# Altium footprint library TPS54361DPRT.PcbLib: 1 footprints
Each footprint in its own frame and in the unit in brackets; x right, y up, seen from the top. Pads: shape width x height; smd on the part's side, far side on the other; paste and mask are expansions set on the pad; w line width, h text height; cw(c..) or ccw(c..) is an arc to the next point about the centre after c.
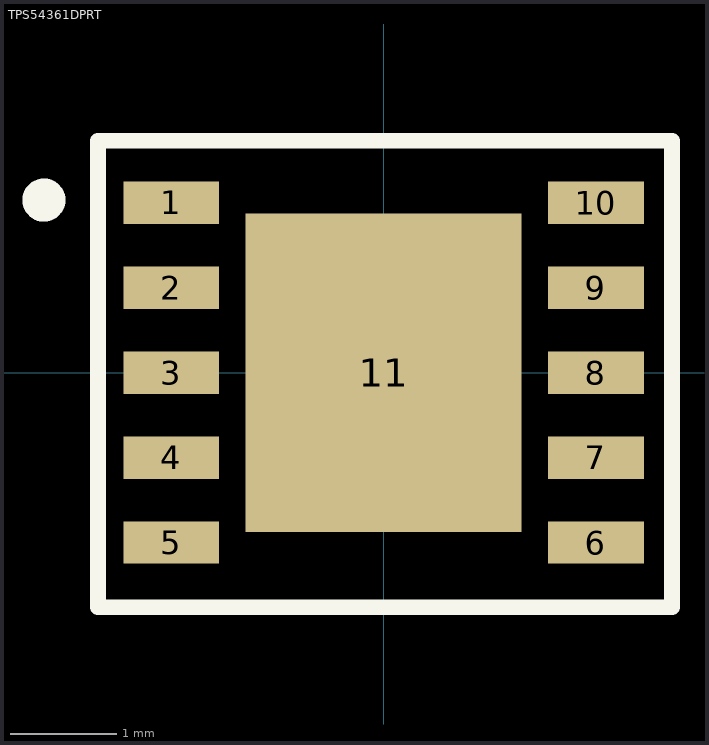
[diagram p0: the footprint, top view; thin cyan lines are the x and y axes]

## TPS54361DPRT [mm]
pads (11):
  rect 0.9x0.4 smd: 1(-2,1.6) 2(-2,0.8) 3(-2,0) 4(-2,-0.8) 5(-2,-1.6) 6(2,-1.6) 7(2,-0.8) 8(2,0) 9(2,0.8) 10(2,1.6)
  rect 2.6x3 smd: 11(0,0)
Top Overlay:
  circle w0.254: c-3.2,1.626 r0.076
  lines w0.15: -2.692,-2.21 2.718,-2.21 2.718,2.184 -2.692,2.184 -2.692,-2.21
3D body "TPS54361DPRT.stp": height 0.8, standoff 0, extent -1.984,-1.995 2.016,2.005